# Altium schematic symbol library SCH - MCU - NUVOTON - NUVOTON NUC240LC2AE.SchLib: 1 symbol
Pins are listed as number, name and electrical type; pins without a type are passive.

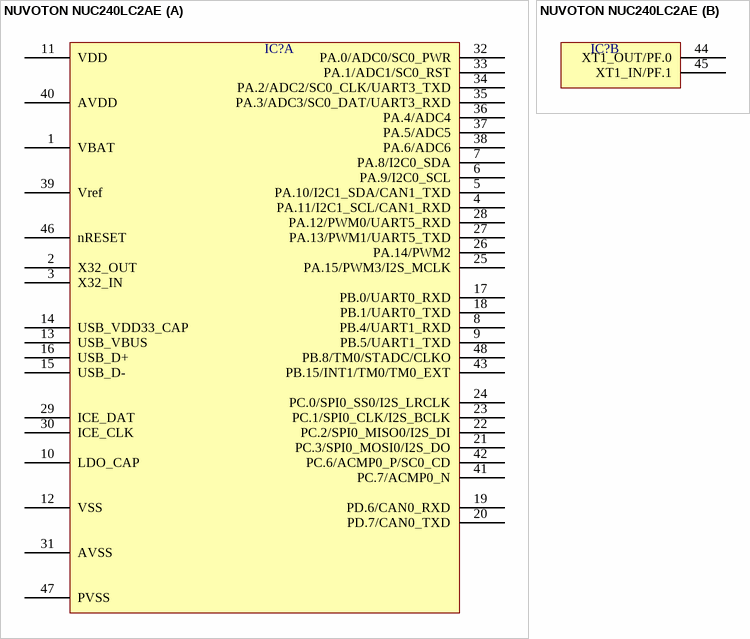
[diagram p0: symbol NUVOTON NUC240LC2AE]

## NUVOTON NUC240LC2AE
designator IC?  (value not drawn)
part A pins: 1 VBAT, 2 X32_OUT, 3 X32_IN, 4 PA.11/I2C1_SCL/CAN1_RXD, 5 PA.10/I2C1_SDA/CAN1_TXD, 6 PA.9/I2C0_SCL, 7 PA.8/I2C0_SDA, 8 PB.4/UART1_RXD, 9 PB.5/UART1_TXD, 10 LDO_CAP, 11 VDD, 12 VSS, 13 USB_VBUS, 14 USB_VDD33_CAP, 15 USB_D-, 16 USB_D+, 17 PB.0/UART0_RXD, 18 PB.1/UART0_TXD, 19 PD.6/CAN0_RXD, 20 PD.7/CAN0_TXD, 21 PC.3/SPI0_MOSI0/I2S_DO, 22 PC.2/SPI0_MISO0/I2S_DI, 23 PC.1/SPI0_CLK/I2S_BCLK, 24 PC.0/SPI0_SS0/I2S_LRCLK, 25 PA.15/PWM3/I2S_MCLK, 26 PA.14/PWM2, 27 PA.13/PWM1/UART5_TXD, 28 PA.12/PWM0/UART5_RXD, 29 ICE_DAT, 30 ICE_CLK, 31 AVSS, 32 PA.0/ADC0/SC0_PWR, 33 PA.1/ADC1/SC0_RST, 34 PA.2/ADC2/SC0_CLK/UART3_TXD, 35 PA.3/ADC3/SC0_DAT/UART3_RXD, 36 PA.4/ADC4, 37 PA.5/ADC5, 38 PA.6/ADC6, 39 Vref, 40 AVDD, 41 PC.7/ACMP0_N, 42 PC.6/ACMP0_P/SC0_CD, 43 PB.15/INT1/TM0/TM0_EXT, 46 nRESET, 47 PVSS, 48 PB.8/TM0/STADC/CLKO
part B pins: 44 XT1_OUT/PF.0, 45 XT1_IN/PF.1